# Altium footprint library Stick.PcbLib: 1 footprints
Each footprint in its own frame and in the unit in brackets; x right, y up, seen from the top. Pads: shape width x height; smd on the part's side, far side on the other; paste and mask are expansions set on the pad; w line width, h text height; cw(c..) or ccw(c..) is an arc to the next point about the centre after c.
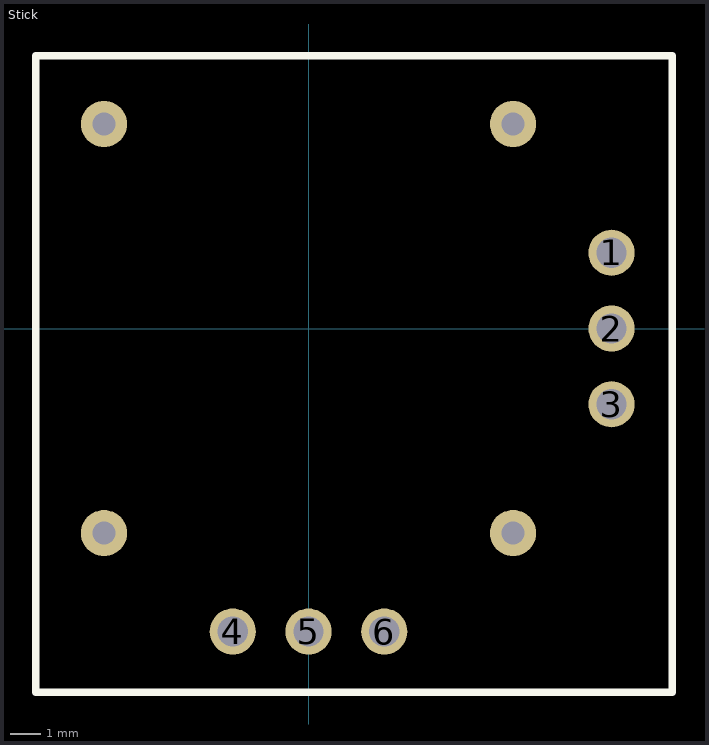
[diagram p0: the footprint, top view; thin cyan lines are the x and y axes]

## Stick [mil]
pads (10):
  round 60 hole 39.37: 1(393.7,98.43) 2(393.7,0) 3(393.7,-98.43) 4(-98.43,-393.7) 5(0,-393.7) 6(98.43,-393.7)
  round 60 hole 30: ""(-265.75,-265.75) ""(-265.75,265.75) ""(265.75,-265.75) ""(265.75,265.75)
Top Overlay:
  lines w10: -354.33,-472.44 -354.33,354.33 472.44,354.33 472.44,-472.44 -354.33,-472.44